# EAGLE library part RPI_CM3+ (library ruark2)
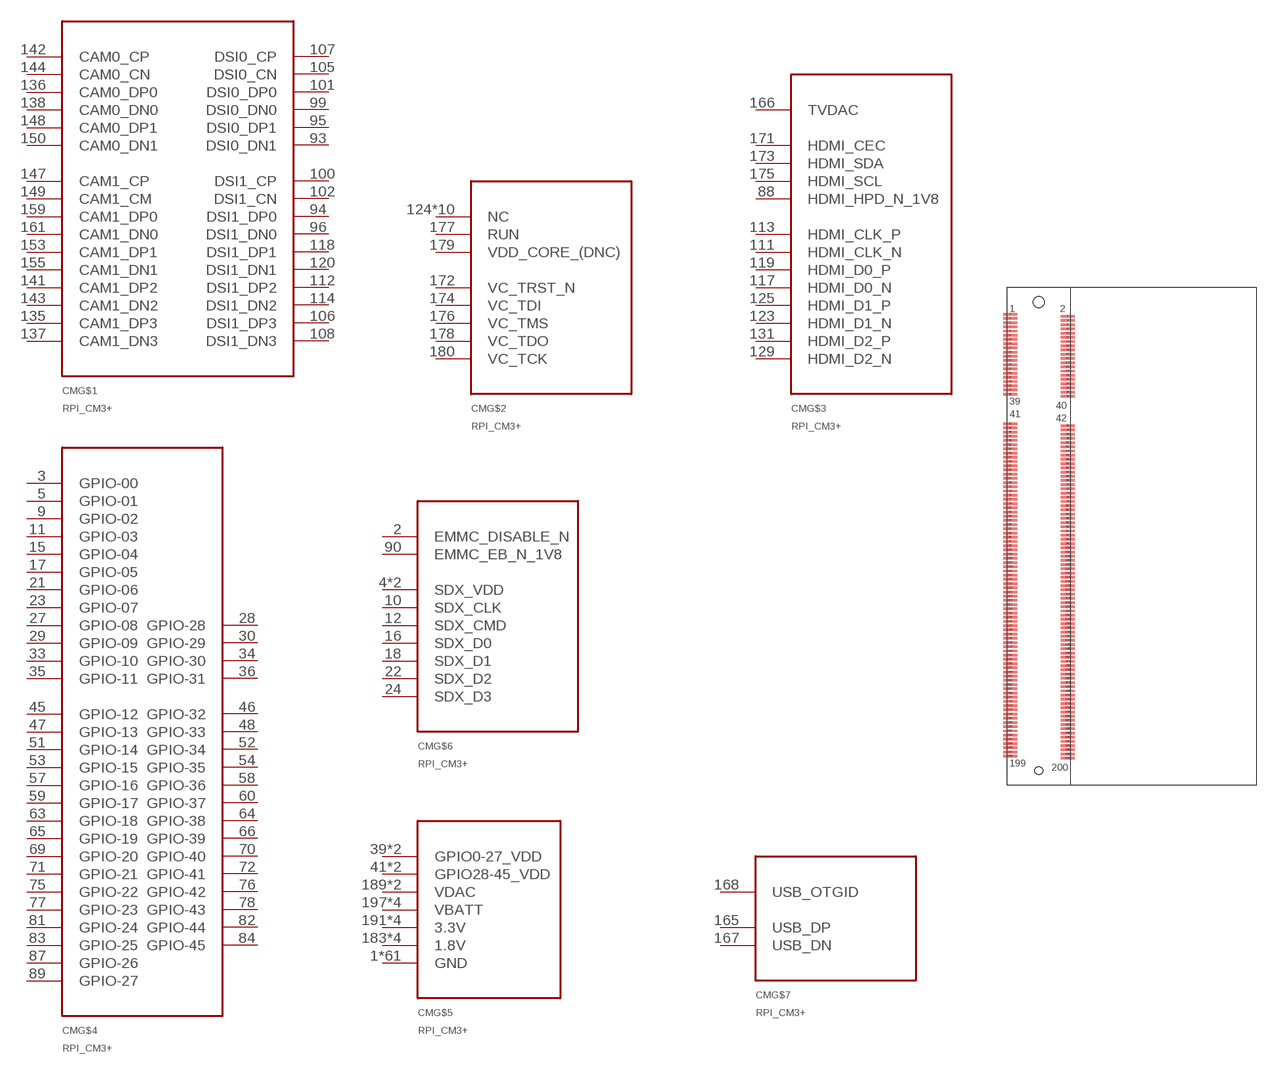
[diagram p84: symbol with the pads of DDR2_SODIMM; footprint DDR2_SODIMM]

Designator prefix CM; gates G$1=RPI_CM_CSI/DSI G$2=RPI_CM_DEBUG G$3=RPI_CM_DISPLAY G$4=RPI_CM_GPIO G$5=RPI_CM_PWR G$6=RPI_CM_SD G$7=RPI_CM_USB

## RPI_CM3+  [DDR2_SODIMM]
1  G$5:GND
2  G$6:EMMC_DISABLE_N
3  G$4:GPIO-00
4  G$6:SDX_VDD
5  G$4:GPIO-01
6  G$6:SDX_VDD
7  G$5:GND
8  G$5:GND
9  G$4:GPIO-02
10  G$6:SDX_CLK
11  G$4:GPIO-03
12  G$6:SDX_CMD
13  G$5:GND
14  G$5:GND
15  G$4:GPIO-04
16  G$6:SDX_D0
17  G$4:GPIO-05
18  G$6:SDX_D1
19  G$5:GND
20  G$5:GND
21  G$4:GPIO-06
22  G$6:SDX_D2
23  G$4:GPIO-07
24  G$6:SDX_D3
25  G$5:GND
26  G$5:GND
27  G$4:GPIO-08
28  G$4:GPIO-28
29  G$4:GPIO-09
30  G$4:GPIO-29
31  G$5:GND
32  G$5:GND
33  G$4:GPIO-10
34  G$4:GPIO-30
35  G$4:GPIO-11
36  G$4:GPIO-31
37  G$5:GND
38  G$5:GND
39  G$5:GPIO0-27_VDD
40  G$5:GPIO0-27_VDD
41  G$5:GPIO28-45_VDD
42  G$5:GPIO28-45_VDD
43  G$5:GND
44  G$5:GND
45  G$4:GPIO-12
46  G$4:GPIO-32
47  G$4:GPIO-13
48  G$4:GPIO-33
49  G$5:GND
50  G$5:GND
51  G$4:GPIO-14
52  G$4:GPIO-34
53  G$4:GPIO-15
54  G$4:GPIO-35
55  G$5:GND
56  G$5:GND
57  G$4:GPIO-16
58  G$4:GPIO-36
59  G$4:GPIO-17
60  G$4:GPIO-37
61  G$5:GND
62  G$5:GND
63  G$4:GPIO-18
64  G$4:GPIO-38
65  G$4:GPIO-19
66  G$4:GPIO-39
67  G$5:GND
68  G$5:GND
69  G$4:GPIO-20
70  G$4:GPIO-40
71  G$4:GPIO-21
72  G$4:GPIO-41
73  G$5:GND
74  G$5:GND
75  G$4:GPIO-22
76  G$4:GPIO-42
77  G$4:GPIO-23
78  G$4:GPIO-43
79  G$5:GND
80  G$5:GND
81  G$4:GPIO-24
82  G$4:GPIO-44
83  G$4:GPIO-25
84  G$4:GPIO-45
85  G$5:GND
86  G$5:GND
87  G$4:GPIO-26
88  G$3:HDMI_HPD_N_1V8
89  G$4:GPIO-27
90  G$6:EMMC_EB_N_1V8
91  G$5:GND
92  G$5:GND
93  G$1:DSI0_DN1
94  G$1:DSI1_DP0
95  G$1:DSI0_DP1
96  G$1:DSI1_DN0
97  G$5:GND
98  G$5:GND
99  G$1:DSI0_DN0
100  G$1:DSI1_CP
101  G$1:DSI0_DP0
102  G$1:DSI1_CN
103  G$5:GND
104  G$5:GND
105  G$1:DSI0_CN
106  G$1:DSI1_DP3
107  G$1:DSI0_CP
108  G$1:DSI1_DN3
109  G$5:GND
110  G$5:GND
111  G$3:HDMI_CLK_N
112  G$1:DSI1_DP2
113  G$3:HDMI_CLK_P
114  G$1:DSI1_DN2
115  G$5:GND
116  G$5:GND
117  G$3:HDMI_D0_N
118  G$1:DSI1_DP1
119  G$3:HDMI_D0_P
120  G$1:DSI1_DN1
121  G$5:GND
122  G$5:GND
123  G$3:HDMI_D1_N
124  G$2:NC
125  G$3:HDMI_D1_P
126  G$2:NC
127  G$5:GND
128  G$2:NC
129  G$3:HDMI_D2_N
130  G$2:NC
131  G$3:HDMI_D2_P
132  G$2:NC
133  G$5:GND
134  G$5:GND
135  G$1:CAM1_DP3
136  G$1:CAM0_DP0
137  G$1:CAM1_DN3
138  G$1:CAM0_DN0
139  G$5:GND
140  G$5:GND
141  G$1:CAM1_DP2
142  G$1:CAM0_CP
143  G$1:CAM1_DN2
144  G$1:CAM0_CN
145  G$5:GND
146  G$5:GND
147  G$1:CAM1_CP
148  G$1:CAM0_DP1
149  G$1:CAM1_CM
150  G$1:CAM0_DN1
151  G$5:GND
152  G$5:GND
153  G$1:CAM1_DP1
154  G$2:NC
155  G$1:CAM1_DN1
156  G$2:NC
157  G$5:GND
158  G$2:NC
159  G$1:CAM1_DP0
160  G$2:NC
161  G$1:CAM1_DN0
162  G$2:NC
163  G$5:GND
164  G$5:GND
165  G$7:USB_DP
166  G$3:TVDAC
167  G$7:USB_DN
168  G$7:USB_OTGID
169  G$5:GND
170  G$5:GND
171  G$3:HDMI_CEC
172  G$2:VC_TRST_N
173  G$3:HDMI_SDA
174  G$2:VC_TDI
175  G$3:HDMI_SCL
176  G$2:VC_TMS
177  G$2:RUN
178  G$2:VC_TDO
179  G$2:VDD_CORE_(DNC)
180  G$2:VC_TCK
181  G$5:GND
182  G$5:GND
183  G$5:1.8V
184  G$5:1.8V
185  G$5:1.8V
186  G$5:1.8V
187  G$5:GND
188  G$5:GND
189  G$5:VDAC
190  G$5:VDAC
191  G$5:3.3V
192  G$5:3.3V
193  G$5:3.3V
194  G$5:3.3V
195  G$5:GND
196  G$5:GND
197  G$5:VBATT
198  G$5:VBATT
199  G$5:VBATT
200  G$5:VBATT

## Footprint DDR2_SODIMM (pad centres in mm)
smd 2 x 0.35: 1 -4.1,14.1; 2 4.1,13.8; 3 -4.1,13.5; 4 4.1,13.2; 5 -4.1,12.9; 6 4.1,12.6; 7 -4.1,12.3; 8 4.1,12; 9 -4.1,11.7; 10 4.1,11.4; 11 -4.1,11.1; 12 4.1,10.8; 13 -4.1,10.5; 14 4.1,10.2; 15 -4.1,9.9; 16 4.1,9.6; 17 -4.1,9.3; 18 4.1,9; 19 -4.1,8.7; 20 4.1,8.4; 21 -4.1,8.1; 22 4.1,7.8; 23 -4.1,7.5; 24 4.1,7.2; 25 -4.1,6.9; 26 4.1,6.6; 27 -4.1,6.3; 28 4.1,6; 29 -4.1,5.7; 30 4.1,5.4; 31 -4.1,5.1; 32 4.1,4.8; 33 -4.1,4.5; 34 4.1,4.2; 35 -4.1,3.9; 36 4.1,3.6; 37 -4.1,3.3; 38 4.1,3; 39 -4.1,2.7; 40 4.1,2.4; 41 -4.1,-1.5; 42 4.1,-1.8; 43 -4.1,-2.1; 44 4.1,-2.4; 45 -4.1,-2.7; 46 4.1,-3; 47 -4.1,-3.3; 48 4.1,-3.6; 49 -4.1,-3.9; 50 4.1,-4.2; 51 -4.1,-4.5; 52 4.1,-4.8; 53 -4.1,-5.1; 54 4.1,-5.4; 55 -4.1,-5.7; 56 4.1,-6; 57 -4.1,-6.3; 58 4.1,-6.6; 59 -4.1,-6.9; 60 4.1,-7.2; 61 -4.1,-7.5; 62 4.1,-7.8; 63 -4.1,-8.1; 64 4.1,-8.4; 65 -4.1,-8.7; 66 4.1,-9; 67 -4.1,-9.3; 68 4.1,-9.6; 69 -4.1,-9.9; 70 4.1,-10.2; 71 -4.1,-10.5; 72 4.1,-10.8; 73 -4.1,-11.1; 74 4.1,-11.4; 75 -4.1,-11.7; 76 4.1,-12; 77 -4.1,-12.3; 78 4.1,-12.6; 79 -4.1,-12.9; 80 4.1,-13.2; 81 -4.1,-13.5; 82 4.1,-13.8; 83 -4.1,-14.1; 84 4.1,-14.4; 85 -4.1,-14.7; 86 4.1,-15; 87 -4.1,-15.3; 88 4.1,-15.6; 89 -4.1,-15.9; 90 4.1,-16.2; 91 -4.1,-16.5; 92 4.1,-16.8; 93 -4.1,-17.1; 94 4.1,-17.4; 95 -4.1,-17.7; 96 4.1,-18; 97 -4.1,-18.3; 98 4.1,-18.6; 99 -4.1,-18.9; 100 4.1,-19.2; 101 -4.1,-19.5; 102 4.1,-19.8; 103 -4.1,-20.1; 104 4.1,-20.4; 105 -4.1,-20.7; 106 4.1,-21; 107 -4.1,-21.3; 108 4.1,-21.6; 109 -4.1,-21.9; 110 4.1,-22.2; 111 -4.1,-22.5; 112 4.1,-22.8; 113 -4.1,-23.1; 114 4.1,-23.4; 115 -4.1,-23.7; 116 4.1,-24; 117 -4.1,-24.3; 118 4.1,-24.6; 119 -4.1,-24.9; 120 4.1,-25.2; 121 -4.1,-25.5; 122 4.1,-25.8; 123 -4.1,-26.1; 124 4.1,-26.4; 125 -4.1,-26.7; 126 4.1,-27; 127 -4.1,-27.3; 128 4.1,-27.6; 129 -4.1,-27.9; 130 4.1,-28.2; 131 -4.1,-28.5; 132 4.1,-28.8; 133 -4.1,-29.1; 134 4.1,-29.4; 135 -4.1,-29.7; 136 4.1,-30; 137 -4.1,-30.3; 138 4.1,-30.6; 139 -4.1,-30.9; 140 4.1,-31.2; 141 -4.1,-31.5; 142 4.1,-31.8; 143 -4.1,-32.1; 144 4.1,-32.4; 145 -4.1,-32.7; 146 4.1,-33; 147 -4.1,-33.3; 148 4.1,-33.6; 149 -4.1,-33.9; 150 4.1,-34.2; 151 -4.1,-34.5; 152 4.1,-34.8; 153 -4.1,-35.1; 154 4.1,-35.4; 155 -4.1,-35.7; 156 4.1,-36; 157 -4.1,-36.3; 158 4.1,-36.6; 159 -4.1,-36.9; 160 4.1,-37.2; 161 -4.1,-37.5; 162 4.1,-37.8; 163 -4.1,-38.1; 164 4.1,-38.4; 165 -4.1,-38.7; 166 4.1,-39; 167 -4.1,-39.3; 168 4.1,-39.6; 169 -4.1,-39.9; 170 4.1,-40.2; 171 -4.1,-40.5; 172 4.1,-40.8; 173 -4.1,-41.1; 174 4.1,-41.4; 175 -4.1,-41.7; 176 4.1,-42; 177 -4.1,-42.3; 178 4.1,-42.6; 179 -4.1,-42.9; 180 4.1,-43.2; 181 -4.1,-43.5; 182 4.1,-43.8; 183 -4.1,-44.1; 184 4.1,-44.4; 185 -4.1,-44.7; 186 4.1,-45; 187 -4.1,-45.3; 188 4.1,-45.6; 189 -4.1,-45.9; 190 4.1,-46.2; 191 -4.1,-46.5; 192 4.1,-46.8; 193 -4.1,-47.1; 194 4.1,-47.4; 195 -4.1,-47.7; 196 4.1,-48; 197 -4.1,-48.3; 198 4.1,-48.6; 199 -4.1,-48.9; 200 4.1,-49.2
hole 1.6 at 0,15.85
hole 1.1 at 0,-50.95